# Altium integrated library Microphones.IntLib: 1 symbol
Pins are listed as number, name and electrical type; pins without a type are passive.

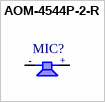
[diagram p0: symbol AOM-4544P-2-R]

## AOM-4544P-2-R
designator MIC?  (value not drawn)
50 Hz ~ 16 kHz Analog Microphone Electret Condenser 1.5 V ~ 10 V Omnidirectional (-44dB ±2dB) PC Pins; Manufacturer: PUI Audio, Inc.; Manufacturer Part Number: AOM-4544P-2-R; Value: *; Supplier: DigiKey; Supplier Part Number: 668-1197-ND; Package/Case: Bulk
footprint MIC_PUIAUDIO_AOM-4544P-2-R
pins: N, P
text: -; +